# Altium footprint library Lib1.PcbLib: 47 footprints (part 3 of 3)
Each footprint in its own frame and in the unit in brackets; x right, y up, seen from the top. Pads: shape width x height; smd on the part's side, far side on the other; paste and mask are expansions set on the pad; w line width, h text height; cw(c..) or ccw(c..) is an arc to the next point about the centre after c.
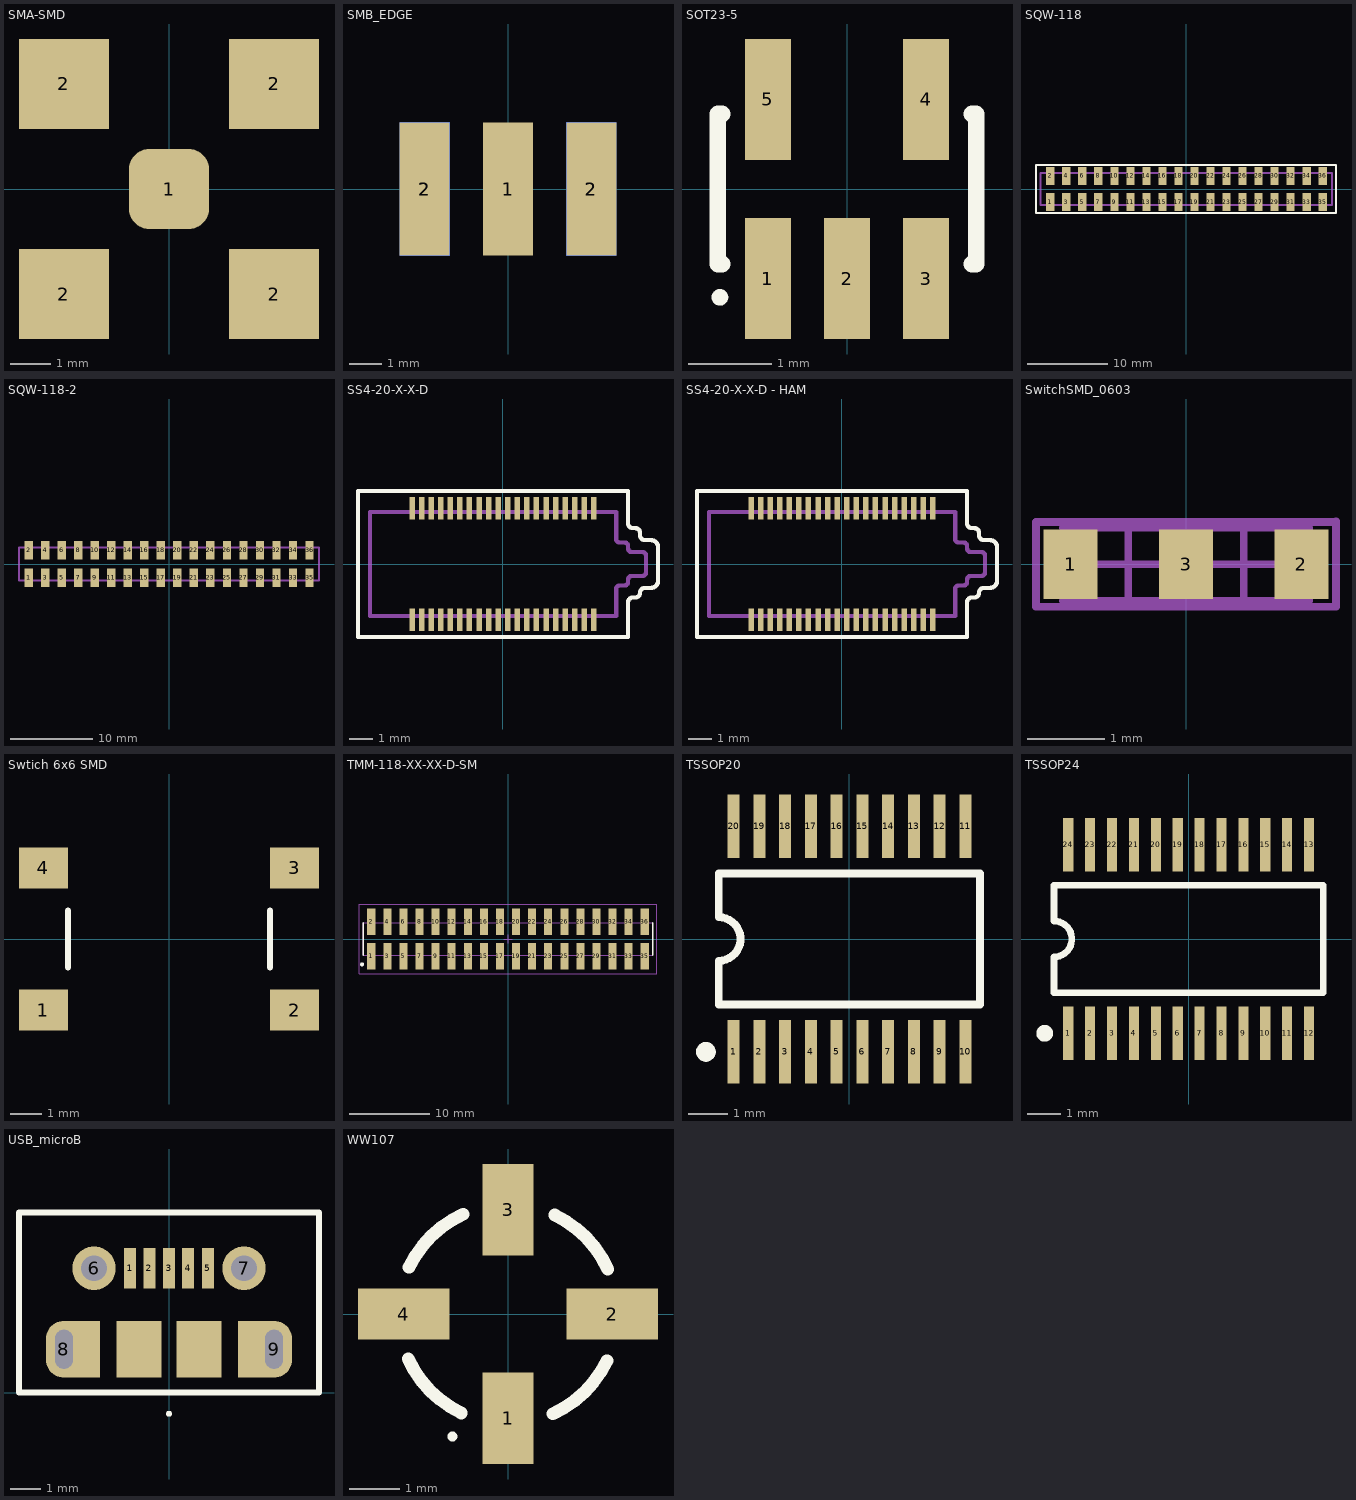
[diagram p2: the footprints below, top view; thin cyan lines are the x and y axes]

## SMA-SMD [mm]
pads (5):
  rrect50% 2x2 smd: 1(0,0)
  rect 2.25x2.25 smd: 2(-2.625,-2.625) 2(-2.625,2.625) 2(2.625,-2.625) 2(2.625,2.625)

## SMB_EDGE [mm] "SOT-23/SC-74A; 5 Leads; Body 3 x 3 mm, inc. leads (LxW max)"
height 1.45
pads (5):
  rect 1.52x4.06 smd: 1(0,0) 2(-2.54,0) 2(2.54,0)
  rect 1.52x4.06 smd far side: 2(-2.54,0) 2(2.54,0)

## SOT23-5 [mm] "SOT-23/SC-74A; 5 Leads; Body 3 x 3 mm, inc. leads (LxW max)"
height 1.45
pads (5):
  rect 0.55x1.45 smd: 1(-0.95,-1.075) 2(0,-1.075) 3(0.95,-1.075) 4(0.95,1.075) 5(-0.95,1.075)
Top Overlay:
  circle w0.1: c-1.525,-1.3 r0.05
  lines w0.2: -1.5,-0.9 -1.55,-0.9 -1.55,0.9 -1.5,0.9 ; 1.5,-0.9 1.55,-0.9 1.55,0.9 1.5,0.9

## SQW-118 [mil]
pads (36):
  rect 40x88 smd mask+2: 1(-669.29,-64.5) 2(-669.29,64.5) 3(-590.55,-64.5) 4(-590.55,64.5) 5(-511.81,-64.5) 6(-511.81,64.5) 7(-433.07,-64.5) 8(-433.07,64.5) 9(-354.33,-64.5) 10(-354.33,64.5) 11(-275.59,-64.5) 12(-275.59,64.5) 13(-196.85,-64.5) 14(-196.85,64.5) 15(-118.11,-64.5) 16(-118.11,64.5) 17(-39.37,-64.5) 18(-39.37,64.5) 19(39.37,-64.5) 20(39.37,64.5) 21(118.11,-64.5) 22(118.11,64.5) 23(196.85,-64.5) 24(196.85,64.5) 25(275.59,-64.5) 26(275.59,64.5) 27(354.33,-64.5) 28(354.33,64.5) 29(433.07,-64.5) 30(433.07,64.5) 31(511.81,-64.5) 32(511.81,64.5) 33(590.55,-64.5) 34(590.55,64.5) 35(669.29,-64.5) 36(669.29,64.5)
Top Overlay:
  lines w10: -739.21,118.46 734.49,118.46 734.49,-118.46 -738.86,-118.46 -738.86,-27.73 -738.86,118.11 -739.21,118.46
Mechanical 1:
  lines w10: -716,-78.74 -716,78.74 714.49,78.74 714.49,-78.74 -716,-78.74

## SQW-118-2 [mil]
pads (36):
  rect 40x88 smd mask+2: 1(-669.29,-64.5) 2(-669.29,64.5) 3(-590.55,-64.5) 4(-590.55,64.5) 5(-511.81,-64.5) 6(-511.81,64.5) 7(-433.07,-64.5) 8(-433.07,64.5) 9(-354.33,-64.5) 10(-354.33,64.5) 11(-275.59,-64.5) 12(-275.59,64.5) 13(-196.85,-64.5) 14(-196.85,64.5) 15(-118.11,-64.5) 16(-118.11,64.5) 17(-39.37,-64.5) 18(-39.37,64.5) 19(39.37,-64.5) 20(39.37,64.5) 21(118.11,-64.5) 22(118.11,64.5) 23(196.85,-64.5) 24(196.85,64.5) 25(275.59,-64.5) 26(275.59,64.5) 27(354.33,-64.5) 28(354.33,64.5) 29(433.07,-64.5) 30(433.07,64.5) 31(511.81,-64.5) 32(511.81,64.5) 33(590.55,-64.5) 34(590.55,64.5) 35(669.29,-64.5) 36(669.29,64.5)
Mechanical 1:
  lines w10: -716,-78.74 -716,78.74 714.49,78.74 714.49,-78.74 -716,-78.74

## SQW-118-L-D [mil]
pads (36):
  rect 40x88 smd mask+2: 1(-669.29,-64.5) 2(-669.29,64.5) 3(-590.55,-64.5) 4(-590.55,64.5) 5(-511.81,-64.5) 6(-511.81,64.5) 7(-433.07,-64.5) 8(-433.07,64.5) 9(-354.33,-64.5) 10(-354.33,64.5) 11(-275.59,-64.5) 12(-275.59,64.5) 13(-196.85,-64.5) 14(-196.85,64.5) 15(-118.11,-64.5) 16(-118.11,64.5) 17(-39.37,-64.5) 18(-39.37,64.5) 19(39.37,-64.5) 20(39.37,64.5) 21(118.11,-64.5) 22(118.11,64.5) 23(196.85,-64.5) 24(196.85,64.5) 25(275.59,-64.5) 26(275.59,64.5) 27(354.33,-64.5) 28(354.33,64.5) 29(433.07,-64.5) 30(433.07,64.5) 31(511.81,-64.5) 32(511.81,64.5) 33(590.55,-64.5) 34(590.55,64.5) 35(669.29,-64.5) 36(669.29,64.5)
Top Layer:
  lines w10: -100009,169.29 -99989,169.29 ; -99999,159.29 -99999,179.29
  text "-99999,169.291 (mil)" at -99989,169.29 h60
Top Overlay:
  lines w10: -739.21,118.46 -738.86,118.11 -738.86,-27.73 -738.86,-118.46 734.49,-118.46 734.49,118.46 -739.21,118.46
Mechanical 1:
  lines w10: -716,-78.74 714.49,-78.74 714.49,78.74 -716,78.74 -716,-78.74

## SS4-20-X-X-D [mm]
pads (40):
  rect 0.23x0.93 smd paste-0.02 mask+0.05: 1(3.8,-2.335) 2(3.4,-2.335) 3(3,-2.335) 4(2.6,-2.335) 5(2.2,-2.335) 6(1.8,-2.335) 7(1.4,-2.335) 8(1,-2.335) 9(0.6,-2.335) 10(0.2,-2.335) 11(-0.2,-2.335) 12(-0.6,-2.335) 13(-1,-2.335) 14(-1.4,-2.335) 15(-1.8,-2.335) 16(-2.2,-2.335) 17(-2.6,-2.335) 18(-3,-2.335) 19(-3.4,-2.335) 20(-3.8,-2.335) 21(-3.8,2.335) 22(-3.4,2.335) 23(-3,2.335) 24(-2.6,2.335) 25(-2.2,2.335) 26(-1.8,2.335) 27(-1.4,2.335) 28(-1,2.335) 29(-0.6,2.335) 30(-0.2,2.335) 31(0.2,2.335) 32(0.6,2.335) 33(1,2.335) 34(1.4,2.335) 35(1.8,2.335) 36(2.2,2.335) 37(2.6,2.335) 38(3,2.335) 39(3.4,2.335) 40(3.8,2.335)
Top Overlay:
  lines w0.178: -6.06,-3.054 5.228,-3.054 5.228,-1.6 cw(c5.428,-1.6) 5.428,-1.4 5.53,-1.4 ccw(c5.53,-1.2) 5.73,-1.2 cw(c5.93,-1.2) 5.93,-1 6.18,-1 ccw(c6.18,-0.7) 6.48,-0.7 6.48,0.7 ccw(c6.18,0.7) 6.18,1 5.93,1 cw(c5.93,1.2) 5.73,1.2 5.73,1.3 ccw(c5.53,1.3) 5.53,1.5 5.428,1.5 cw(c5.428,1.7) 5.228,1.7 5.228,3.054 -6.06,3.054 -6.06,-3.054
Mechanical 1:
  lines w0.178: -5.56,-2.175 4.73,-2.175 4.73,-1.05 cw(c4.88,-1.05) 4.88,-0.9 5.08,-0.9 ccw(c5.08,-0.75) 5.23,-0.75 5.23,-0.65 cw(c5.38,-0.65) 5.38,-0.5 5.83,-0.5 ccw(c5.83,-0.35) 5.98,-0.35 5.98,0.35 ccw(c5.83,0.35) 5.83,0.5 5.38,0.5 cw(c5.38,0.65) 5.23,0.65 5.23,0.75 ccw(c5.08,0.75) 5.08,0.9 4.88,0.9 cw(c4.88,1.05) 4.73,1.05 4.73,2.175 -5.56,2.175 -5.56,-2.175
  text "J1" at -0.497,-0.508 h0.76

## SS4-20-X-X-D - HAM [mm]
pads (40):
  rect 0.23x0.93 smd paste-0.02 mask+0.05: 1(3.8,2.335) 2(3.4,2.335) 3(3,2.335) 4(2.6,2.335) 5(2.2,2.335) 6(1.8,2.335) 7(1.4,2.335) 8(1,2.335) 9(0.6,2.335) 10(0.2,2.335) 11(-0.2,2.335) 12(-0.6,2.335) 13(-1,2.335) 14(-1.4,2.335) 15(-1.8,2.335) 16(-2.2,2.335) 17(-2.6,2.335) 18(-3,2.335) 19(-3.4,2.335) 20(-3.8,2.335) 21(-3.8,-2.335) 22(-3.4,-2.335) 23(-3,-2.335) 24(-2.6,-2.335) 25(-2.2,-2.335) 26(-1.8,-2.335) 27(-1.4,-2.335) 28(-1,-2.335) 29(-0.6,-2.335) 30(-0.2,-2.335) 31(0.2,-2.335) 32(0.6,-2.335) 33(1,-2.335) 34(1.4,-2.335) 35(1.8,-2.335) 36(2.2,-2.335) 37(2.6,-2.335) 38(3,-2.335) 39(3.4,-2.335) 40(3.8,-2.335)
Top Overlay:
  lines w0.178: -6.06,-3.054 -6.06,3.054 5.228,3.054 5.228,1.7 ccw(c5.428,1.7) 5.428,1.5 5.53,1.5 cw(c5.53,1.3) 5.73,1.3 5.73,1.2 ccw(c5.93,1.2) 5.93,1 6.18,1 cw(c6.18,0.7) 6.48,0.7 6.48,-0.7 cw(c6.18,-0.7) 6.18,-1 5.93,-1 ccw(c5.93,-1.2) 5.73,-1.2 cw(c5.53,-1.2) 5.53,-1.4 5.428,-1.4 ccw(c5.428,-1.6) 5.228,-1.6 5.228,-3.054 -6.06,-3.054
Mechanical 1:
  lines w0.178: -5.56,-2.175 -5.56,2.175 4.73,2.175 4.73,1.05 ccw(c4.88,1.05) 4.88,0.9 5.08,0.9 cw(c5.08,0.75) 5.23,0.75 5.23,0.65 ccw(c5.38,0.65) 5.38,0.5 5.83,0.5 cw(c5.83,0.35) 5.98,0.35 5.98,-0.35 cw(c5.83,-0.35) 5.83,-0.5 5.38,-0.5 ccw(c5.38,-0.65) 5.23,-0.65 5.23,-0.75 cw(c5.08,-0.75) 5.08,-0.9 4.88,-0.9 ccw(c4.88,-1.05) 4.73,-1.05 4.73,-2.175 -5.56,-2.175
  text "J1" at -0.497,-0.508 h0.76

## SwitchSMD_0603 [mm] "3 pins 0603"
pads (3):
  rect 0.7x0.9 smd: 1(-1.5,0) 2(1.5,0) 3(0,0)
Mechanical 13:
  lines w0.1: -1.6,-0.475 1.6,-0.475 1.6,0.475 -0.1,0.475 ; -1.6,0.475 -0.1,0.475 ; -0.1,-0.475 -0.1,0.475
Mechanical 15:
  lines w0.1: -1.225,0 -0.275,0 ; -0.75,-0.475 -0.75,0.475 ; 0.275,0 1.225,0 ; 0.75,-0.475 0.75,0.475 ; 1.95,0.55 -1.95,0.55 -1.95,-0.55 1.95,-0.55 1.95,0.559
3D body: height 0.9, standoff 0, extent -1.6,-0.475 1.6,0.475

## Swtich 6x6 SMD [mm] "Switch 4 leads 6 x 6 mm, SMD"
height 1.45
pads (4):
  rect 1.55x1.3 smd: 1(-3.975,-2.25) 2(3.975,-2.25) 3(3.975,2.25) 4(-3.975,2.25)
Top Overlay:
  lines w0.2: -3.2,-0.9 -3.2,0.9 ; 3.2,-0.9 3.2,0.9

## TMM-118-XX-XX-D-SM [mm] "2.00mm pitch, 36 pin, terminal strip; double row, SMT"
height 2.77
pads (36):
  rect 1x3.3 smd mask+0: 1(-17,-2.15) 2(-17,2.15) 3(-15,-2.15) 4(-15,2.15) 5(-13,-2.15) 6(-13,2.15) 7(-11,-2.15) 8(-11,2.15) 9(-9,-2.15) 10(-9,2.15) 11(-7,-2.15) 12(-7,2.15) 13(-5,-2.15) 14(-5,2.15) 15(-3,-2.15) 16(-3,2.15) 17(-1,-2.15) 18(-1,2.15) 19(1,-2.15) 20(1,2.15) 21(3,-2.15) 22(3,2.15) 23(5,-2.15) 24(5,2.15) 25(7,-2.15) 26(7,2.15) 27(9,-2.15) 28(9,2.15) 29(11,-2.15) 30(11,2.15) 31(13,-2.15) 32(13,2.15) 33(15,-2.15) 34(15,2.15) 35(17,-2.15) 36(17,2.15)
Top Overlay:
  circle w0.25: c-18.15,-3.15 r0.125
  lines w0.2: -18,-2 -18,2 ; 18,-2 18,2
Mechanical 12:
  lines w0.001: -18,-2 18,-2 18,2 -18,2 -18,-2
Mechanical 13:
  lines w0.1: -18,-2 18,-2 18,2 -18,2 -18,-2
  text ".Designator" at 0,-0.127 h1.52
Mechanical 15:
  lines w0.05: -0.5,0 0.5,0 ; 0,-0.5 0,0.5 ; -18.5,-4.3 18.5,-4.3 18.5,4.3 -18.5,4.3 -18.5,-4.3

## TSSOP20 [mm] "Shrink Small Outline; 20 Leads; Body Width 4.4 mm; Pitch 0.65 mm"
height 1.1
pads (20):
  rect 0.3x1.6 smd: 1(-2.925,-2.85) 2(-2.275,-2.85) 3(-1.625,-2.85) 4(-0.975,-2.85) 5(-0.325,-2.85) 6(0.325,-2.85) 7(0.975,-2.85) 8(1.625,-2.85) 9(2.275,-2.85) 10(2.925,-2.85) 11(2.925,2.85) 12(2.275,2.85) 13(1.625,2.85) 14(0.975,2.85) 15(0.325,2.85) 16(-0.325,2.85) 17(-0.975,2.85) 18(-1.625,2.85) 19(-2.275,2.85) 20(-2.925,2.85)
Top Overlay:
  circle w0.25: c-3.625,-2.85 r0.125
  lines w0.2: -3.3,-1.65 3.3,-1.65 3.3,1.65 -3.3,1.65 -3.3,0.55 cw(c-3.3,0) -3.3,-0.55 -3.3,-1.65

## TSSOP24 [mm] "Shrink Small Outline; 24 Leads; Body Width 4.4 mm; Pitch 0.65 mm"
height 1.1
pads (24):
  rect 0.3x1.6 smd: 1(-3.575,-2.8) 2(-2.925,-2.8) 3(-2.275,-2.8) 4(-1.625,-2.8) 5(-0.975,-2.8) 6(-0.325,-2.8) 7(0.325,-2.8) 8(0.975,-2.8) 9(1.625,-2.8) 10(2.275,-2.8) 11(2.925,-2.8) 12(3.575,-2.8) 13(3.575,2.8) 14(2.925,2.8) 15(2.275,2.8) 16(1.625,2.8) 17(0.975,2.8) 18(0.325,2.8) 19(-0.325,2.8) 20(-0.975,2.8) 21(-1.625,2.8) 22(-2.275,2.8) 23(-2.925,2.8) 24(-3.575,2.8)
Top Overlay:
  circle w0.25: c-4.275,-2.8 r0.125
  lines w0.2: -4,-1.6 -4,-0.533 ccw(c-4,0) -4,0.533 -4,1.6 4,1.6 4,-1.6 -4,-1.6

## USB_microB [mm]
pads (13):
  rect 0.4x1.35 smd: 1(-1.3,4.15) 2(-0.65,4.15) 3(0,4.15) 4(0.64,4.15) 5(1.3,4.15)
  round 1.45 hole 0.85: 6(-2.5,4.15) 7(2.5,4.15)
  oval 1.2x1.9 hole 0.6 slot 1.3 at 90 deg: 8(-3.5,1.45) 9(3.5,1.45)
  rect 1.2x1.9 smd: ""(-2.9,1.45) ""(2.9,1.45)
  rect 1.5x1.9 smd: ""(-1,1.45) ""(1,1.45)
Top Overlay:
  circle w0.1: c0,-0.7 r0.05
  lines w0.2: -5,0 -5,6 5,6 5,0 -5,0

## WW107 [mm] "SOT-23/SC-74A; 5 Leads; Body 3 x 3 mm, inc. leads (LxW max)"
height 1.45
pads (4):
  rect 1.02x1.83 smd: 1(0,-2.085) 3(0,2.085)
  rect 1.83x1.02 smd: 2(2.085,0) 4(-2.085,0)
Top Overlay:
  circle w0.1: c-1.112,-2.45 r0.05
  lines w0.254: -1.995,-0.898 ccw(c0,0) -0.933,-1.979 ; -1.979,0.933 cw(c0,0) -0.898,1.995 ; 0.898,-1.995 ccw(c0,0) 1.979,-0.933 ; 0.933,1.979 cw(c0,0) 1.995,0.898